# EAGLE library part 685119134923 (library Wurth-USB)
WR-COM SMT Horizontal HDMI, 19 pins=>Code : Con_I-O_COM_HDMI_685119134923 <http://katalog.we-online.de/media/images/eican/Con_I-O_COM_HDMI_685119134923_pf2.jpg> Details see: http://katalog.we-online.de/en/em/COM_SMT_HORIZONTAL/685119134923 Created 2014-07-09, Karrer Zheng 2014 (C) Würth Elektronik
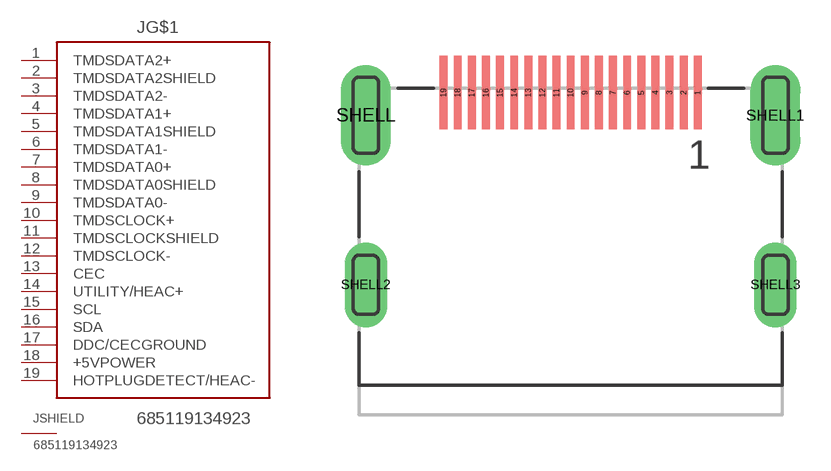
[diagram p74: symbol with the pads of 685119134923; footprint 685119134923]

Designator prefix J; gates G$1=HDMI_TYPA SHIELD=SHIELD

## 685119134923  [685119134923]
1  G$1:TMDSDATA2+
2  G$1:TMDSDATA2SHIELD
3  G$1:TMDSDATA2-
4  G$1:TMDSDATA1+
5  G$1:TMDSDATA1SHIELD
6  G$1:TMDSDATA1-
7  G$1:TMDSDATA0+
8  G$1:TMDSDATA0SHIELD
9  G$1:TMDSDATA0-
10  G$1:TMDSCLOCK+
11  G$1:TMDSCLOCKSHIELD
12  G$1:TMDSCLOCK-
13  G$1:CEC
14  G$1:UTILITY/HEAC+
15  G$1:SCL
16  G$1:SDA
17  G$1:DDC/CECGROUND
18  G$1:+5VPOWER
19  G$1:HOTPLUGDETECT/HEAC-
SHELL  SHIELD:SHIELD  pas
SHELL1  SHIELD:SHIELD  pas
SHELL2  SHIELD:SHIELD  pas
SHELL3  SHIELD:SHIELD  pas

## Footprint 685119134923 (pad centres in mm)
WR-COM SMT Horizontal HDMI, 19 pins
smd 0.28 x 2.6: 1 4.5,0; 2 4,0; 3 3.5,0; 4 3,0; 5 2.5,0; 6 2,0; 7 1.5,0; 8 1,0; 9 0.5,0; 10 0,0; 11 -0.5,0; 12 -1,0; 13 -1.5,0; 14 -2,0; 15 -2.5,0; 16 -3,0; 17 -3.5,0; 18 -4,0; 19 -4.5,0
drill 0.9 pad 1.778 long: SHELL -7.25,-0.8; SHELL1 7.25,-0.8
drill 0.9 pad 1.5 long: SHELL2 -7.25,-6.8; SHELL3 7.25,-6.8